# EAGLE library part SN74CB3T3125PW (library SN74CB3T3125PW)
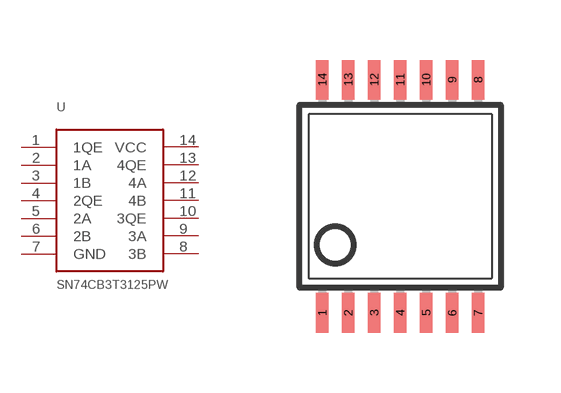
[diagram p0: symbol with the pads of TSSOP-14; footprint TSSOP-14]

Designator prefix -

## SN74CB3T3125PW  [TSSOP-14]
1  1QE
2  1A
3  1B
4  2QE
5  2A
6  2B
7  GND
8  3B
9  3A
10  3QE
11  4B
12  4A
13  4QE
14  VCC

## Footprint TSSOP-14 (pad centres in mm)
smd 0.305 x 0.991: 1 -1.95,-2.918; 2 -1.3,-2.918; 3 -0.65,-2.918; 4 0,-2.918; 5 0.65,-2.918; 6 1.3,-2.918; 7 1.95,-2.918; 8 1.95,2.918; 9 1.3,2.918; 10 0.65,2.918; 11 0,2.918; 12 -0.65,2.918; 13 -1.3,2.918; 14 -1.95,2.918